# Altium schematic symbol library ANLOGIC EAGLE FPGA E104 V2.0.SCHLIB: 18 symbols
Pins are listed as number, name and electrical type; pins without a type are passive.

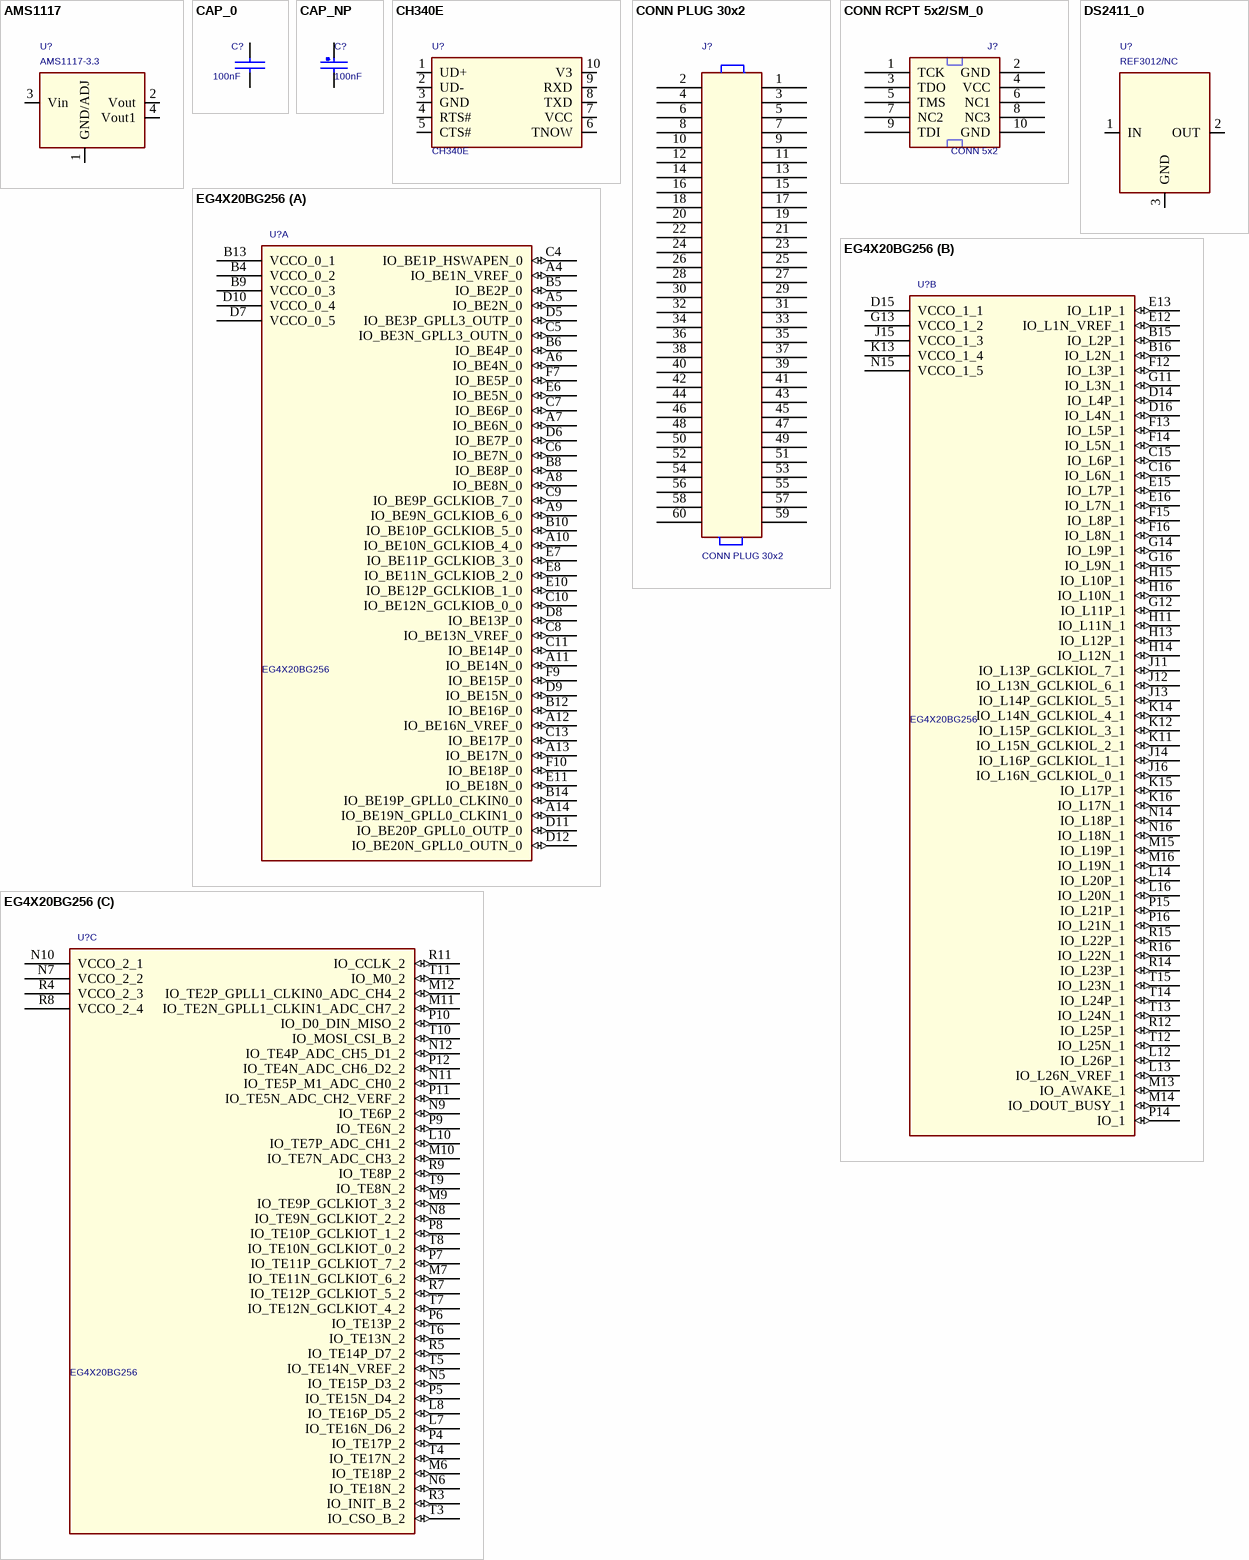
[diagram p0: symbols AMS1117 to EG4X20BG256]

## AMS1117
designator U?, comment AMS1117-3.3
footprint SOT-223
footprint SOT-223
pins: 1 GND/ADJ, 2 Vout (power), 3 Vin (power), 4 Vout1 (power)

## CAP_0
designator C?, comment 100nF
CAP CER .1UF 16V X7R 0402; MANUFACTURER: MURATA; MANUFACTURER P/N: GRM155R71C104KA88D; ROOM: PHY&FPGA; DISTRIBUTOR P/N: 490-3261-1-ND; DIELECTRIC: X7R; PRICE: 0.00300; DISTRIBUTOR: DIGIKEY
footprint 0603
footprint C0402
pins: 1, 2

## CAP_NP
designator C?, comment 100nF
CAP CER 0.01UF 6.3V 10% X7R 0201; AGILE_PN: 150-75465; MFG_NAME01: MURATA; MFG_PN01: GRM033R70J103KA01D; CAD_APPROVED: YES; FPLIST: CC0201,CC0201_HD,0201_CC; Tolerance: 10%; ROHS: Yes; HEIGHT: 0.33 MM
footprint C0402
pins: 1, 2

## CH340E
designator U?
footprint MSOP10
pins: 1 UD+, 2 UD-, 3 GND (power), 4 RTS#, 5 CTS#, 6 TNOW, 7 VCC (power), 8 TXD, 9 RXD, 10 V3

## CONN PLUG 30x2
designator J?
footprint DIP2X30_2P54
pins: 1, 2, 3, 4, 5, 6, 7, 8, 9, 10, 11, 12, 13, 14, 15, 16, 17, 18, 19, 20, 21, 22, 23, 24, 25, 26, 27, 28, 29, 30, 31, 32, 33, 34, 35, 36, 37, 38, 39, 40, 41, 42, 43, 44, 45, 46, 47, 48, 49, 50, 51, 52, 53, 54, 55, 56, 57, 58, 59, 60

## CONN RCPT 5x2/SM_0
designator J?, comment CONN 5x2
footprint DIP10-2P54-I
pins: 1 TCK, 2 GND (power), 3 TDO, 4 VCC (power), 5 TMS, 6 NC1, 7 NC2, 8 NC3, 9 TDI, 10 GND (power)

## DS2411_0
designator U?, comment REF3012/NC
footprint SOT23_3
pins: 1 IN (power), 2 OUT (power), 3 GND (power)

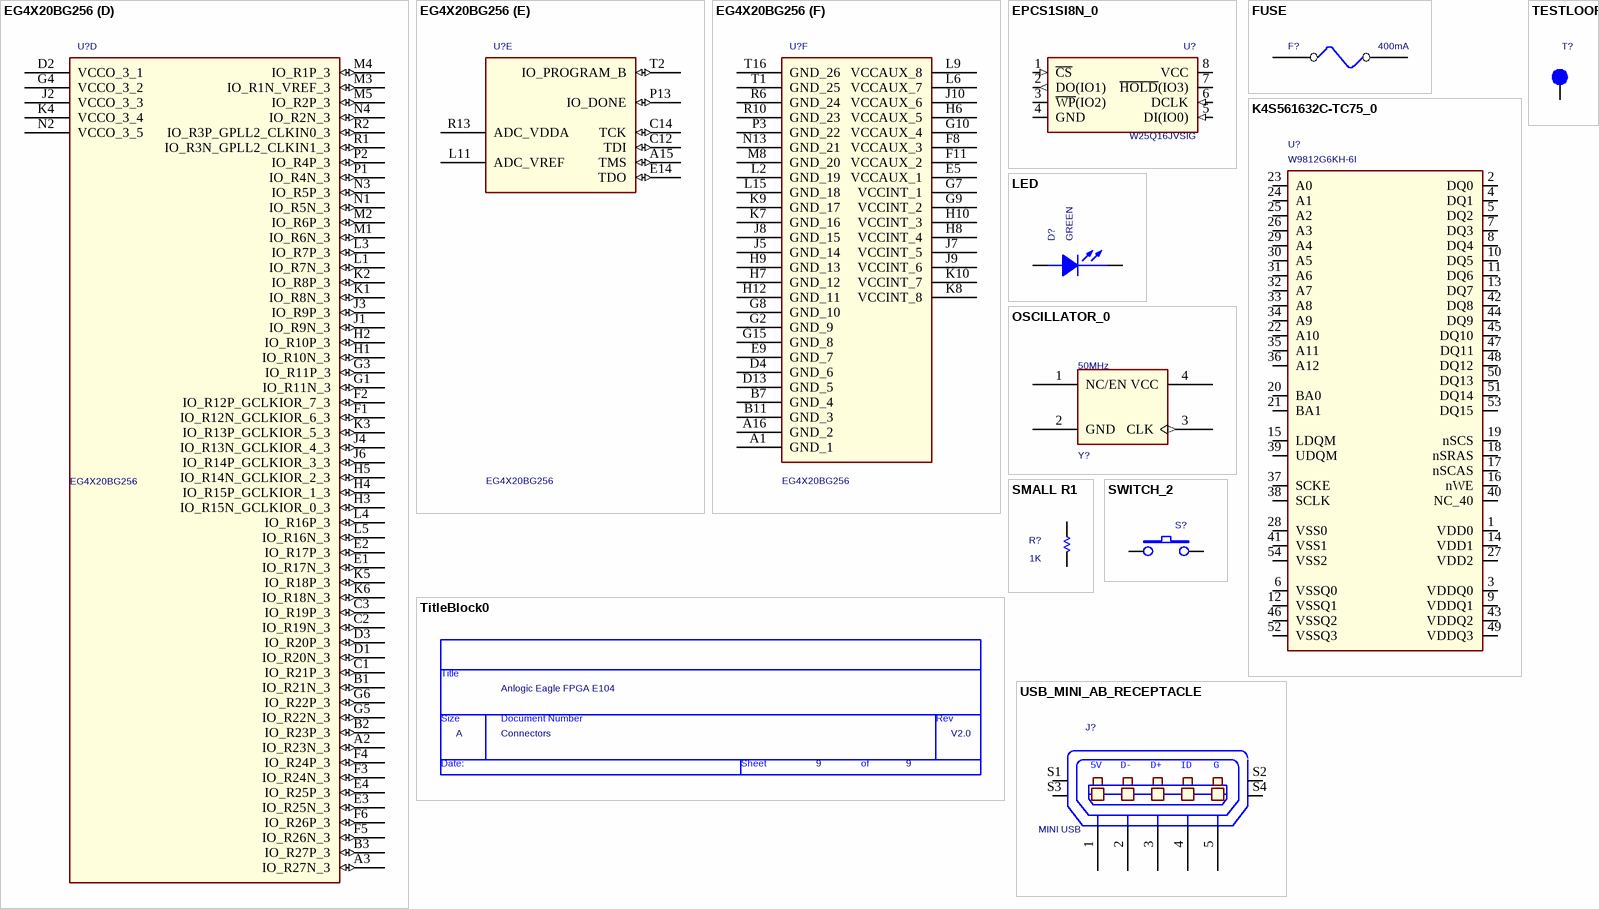
[diagram p1: symbols EG4X20BG256 to USB_MINI_AB_RECEPTACLE]

## EG4X20BG256
designator U?
SWAP_INFO: (S1+S2+S3+S4+S5+S6); SPLIT_INST: TRUE
footprint FTG256
part A pins: A4 IO_BE1N_VREF_0 (io), A5 IO_BE2N_0 (io), A6 IO_BE4N_0 (io), A7 IO_BE6N_0 (io), A8 IO_BE8N_0 (io), A9 IO_BE9N_GCLKIOB_6_0 (io), A10 IO_BE10N_GCLKIOB_4_0 (io), A11 IO_BE14N_0 (io), A12 IO_BE16N_VREF_0 (io), A13 IO_BE17N_0 (io), A14 IO_BE19N_GPLL0_CLKIN1_0 (io), B4 VCCO_0_2 (power), B5 IO_BE2P_0 (io), B6 IO_BE4P_0 (io), B8 IO_BE8P_0 (io), B9 VCCO_0_3 (power), B10 IO_BE10P_GCLKIOB_5_0 (io), B12 IO_BE16P_0 (io), B13 VCCO_0_1 (power), B14 IO_BE19P_GPLL0_CLKIN0_0 (io), C4 IO_BE1P_HSWAPEN_0 (io), C5 IO_BE3N_GPLL3_OUTN_0 (io), C6 IO_BE7N_0 (io), C7 IO_BE6P_0 (io), C8 IO_BE13N_VREF_0 (io), C9 IO_BE9P_GCLKIOB_7_0 (io), C10 IO_BE12N_GCLKIOB_0_0 (io), C11 IO_BE14P_0 (io), C13 IO_BE17P_0 (io), D5 IO_BE3P_GPLL3_OUTP_0 (io), D6 IO_BE7P_0 (io), D7 VCCO_0_5 (power), D8 IO_BE13P_0 (io), D9 IO_BE15N_0 (io), D10 VCCO_0_4 (power), D11 IO_BE20P_GPLL0_OUTP_0 (io), D12 IO_BE20N_GPLL0_OUTN_0 (io), E6 IO_BE5N_0 (io), E7 IO_BE11P_GCLKIOB_3_0 (io), E8 IO_BE11N_GCLKIOB_2_0 (io), E10 IO_BE12P_GCLKIOB_1_0 (io), E11 IO_BE18N_0 (io), F7 IO_BE5P_0 (io), F9 IO_BE15P_0 (io), F10 IO_BE18P_0 (io)
part B pins: B15 IO_L2P_1 (io), B16 IO_L2N_1 (io), C15 IO_L6P_1 (io), C16 IO_L6N_1 (io), D14 IO_L4P_1 (io), D15 VCCO_1_1 (power), D16 IO_L4N_1 (io), E12 IO_L1N_VREF_1 (io), E13 IO_L1P_1 (io), E15 IO_L7P_1 (io), E16 IO_L7N_1 (io), F12 IO_L3P_1 (io), F13 IO_L5P_1 (io), F14 IO_L5N_1 (io), F15 IO_L8P_1 (io), F16 IO_L8N_1 (io), G11 IO_L3N_1 (io), G12 IO_L11P_1 (io), G13 VCCO_1_2 (power), G14 IO_L9P_1 (io), G16 IO_L9N_1 (io), H11 IO_L11N_1 (io), H13 IO_L12P_1 (io), H14 IO_L12N_1 (io), H15 IO_L10P_1 (io), H16 IO_L10N_1 (io), J11 IO_L13P_GCLKIOL_7_1 (io), J12 IO_L13N_GCLKIOL_6_1 (io), J13 IO_L14P_GCLKIOL_5_1 (io), J14 IO_L16P_GCLKIOL_1_1 (io), J15 VCCO_1_3 (power), J16 IO_L16N_GCLKIOL_0_1 (io), K11 IO_L15N_GCLKIOL_2_1 (io), K12 IO_L15P_GCLKIOL_3_1 (io), K13 VCCO_1_4 (power), K14 IO_L14N_GCLKIOL_4_1 (io), K15 IO_L17P_1 (io), K16 IO_L17N_1 (io), L12 IO_L26P_1 (io), L13 IO_L26N_VREF_1 (io), L14 IO_L20P_1 (io), L16 IO_L20N_1 (io), M13 IO_AWAKE_1 (io), M14 IO_DOUT_BUSY_1 (io), M15 IO_L19P_1 (io), M16 IO_L19N_1 (io), N14 IO_L18P_1 (io), N15 VCCO_1_5 (power), N16 IO_L18N_1 (io), P14 IO_1 (io), P15 IO_L21P_1 (io), P16 IO_L21N_1 (io), R12 IO_L25P_1 (io), R14 IO_L23P_1 (io), R15 IO_L22P_1 (io), R16 IO_L22N_1 (io), T12 IO_L25N_1 (io), T13 IO_L24N_1 (io), T14 IO_L24P_1 (io), T15 IO_L23N_1 (io)
part C pins: L7 IO_TE16N_D6_2 (io), L8 IO_TE16P_D5_2 (io), L10 IO_TE7P_ADC_CH1_2 (io), M6 IO_TE18P_2 (io), M7 IO_TE11N_GCLKIOT_6_2 (io), M9 IO_TE9P_GCLKIOT_3_2 (io), M10 IO_TE7N_ADC_CH3_2 (io), M11 IO_TE2N_GPLL1_CLKIN1_ADC_CH7_2 (io), M12 IO_TE2P_GPLL1_CLKIN0_ADC_CH4_2 (io), N5 IO_TE15P_D3_2 (io), N6 IO_TE18N_2 (io), N7 VCCO_2_2 (power), N8 IO_TE9N_GCLKIOT_2_2 (io), N9 IO_TE6P_2 (io), N10 VCCO_2_1 (power), N11 IO_TE5P_M1_ADC_CH0_2 (io), N12 IO_TE4P_ADC_CH5_D1_2 (io), P4 IO_TE17P_2 (io), P5 IO_TE15N_D4_2 (io), P6 IO_TE13P_2 (io), P7 IO_TE11P_GCLKIOT_7_2 (io), P8 IO_TE10P_GCLKIOT_1_2 (io), P9 IO_TE6N_2 (io), P10 IO_D0_DIN_MISO_2 (io), P11 IO_TE5N_ADC_CH2_VERF_2 (io), P12 IO_TE4N_ADC_CH6_D2_2 (io), R3 IO_INIT_B_2 (io), R4 VCCO_2_3 (power), R5 IO_TE14P_D7_2 (io), R7 IO_TE12P_GCLKIOT_5_2 (io), R8 VCCO_2_4 (power), R9 IO_TE8P_2 (io), R11 IO_CCLK_2 (io), T3 IO_CSO_B_2 (io), T4 IO_TE17N_2 (io), T5 IO_TE14N_VREF_2 (io), T6 IO_TE13N_2 (io), T7 IO_TE12N_GCLKIOT_4_2 (io), T8 IO_TE10N_GCLKIOT_0_2 (io), T9 IO_TE8N_2 (io), T10 IO_MOSI_CSI_B_2 (io), T11 IO_M0_2 (io)
part D pins: A2 IO_R23N_3 (io), A3 IO_R27N_3 (io), B1 IO_R21N_3 (io), B2 IO_R23P_3 (io), B3 IO_R27P_3 (io), C1 IO_R21P_3 (io), C2 IO_R19N_3 (io), C3 IO_R19P_3 (io), D1 IO_R20N_3 (io), D2 VCCO_3_1 (power), D3 IO_R20P_3 (io), E1 IO_R17N_3 (io), E2 IO_R17P_3 (io), E3 IO_R25N_3 (io), E4 IO_R25P_3 (io), F1 IO_R12N_GCLKIOR_6_3 (io), F2 IO_R12P_GCLKIOR_7_3 (io), F3 IO_R24N_3 (io), F4 IO_R24P_3 (io), F5 IO_R26N_3 (io), F6 IO_R26P_3 (io), G1 IO_R11N_3 (io), G3 IO_R11P_3 (io), G4 VCCO_3_2 (power), G5 IO_R22N_3 (io), G6 IO_R22P_3 (io), H1 IO_R10N_3 (io), H2 IO_R10P_3 (io), H3 IO_R15N_GCLKIOR_0_3 (io), H4 IO_R15P_GCLKIOR_1_3 (io), H5 IO_R14N_GCLKIOR_2_3 (io), J1 IO_R9N_3 (io), J2 VCCO_3_3 (power), J3 IO_R9P_3 (io), J4 IO_R13N_GCLKIOR_4_3 (io), J6 IO_R14P_GCLKIOR_3_3 (io), K1 IO_R8N_3 (io), K2 IO_R8P_3 (io), K3 IO_R13P_GCLKIOR_5_3 (io), K4 VCCO_3_4 (power), K5 IO_R18P_3 (io), K6 IO_R18N_3 (io), L1 IO_R7N_3 (io), L3 IO_R7P_3 (io), L4 IO_R16P_3 (io), L5 IO_R16N_3 (io), M1 IO_R6N_3 (io), M2 IO_R6P_3 (io), M3 IO_R1N_VREF_3 (io), M4 IO_R1P_3 (io), M5 IO_R2P_3 (io), N1 IO_R5N_3 (io), N2 VCCO_3_5 (power), N3 IO_R5P_3 (io), N4 IO_R2N_3 (io), P1 IO_R4N_3 (io), P2 IO_R4P_3 (io), R1 IO_R3N_GPLL2_CLKIN1_3 (io), R2 IO_R3P_GPLL2_CLKIN0_3 (io)
part E pins: A15 TMS (io), C12 TDI (io), C14 TCK (io), E14 TDO (io), L11 ADC_VREF (power), P13 IO_DONE (io), R13 ADC_VDDA (power), T2 IO_PROGRAM_B (io)
part F pins: A1 GND_1 (power), A16 GND_2 (power), B7 GND_4 (power), B11 GND_3 (power), D4 GND_6 (power), D13 GND_5 (power), E5 VCCAUX_1 (power), E9 GND_7 (power), F8 VCCAUX_3 (power), F11 VCCAUX_2 (power), G2 GND_9 (power), G7 VCCINT_1 (power), G8 GND_10 (power), G9 VCCINT_2 (power), G10 VCCAUX_4 (power), G15 GND_8 (power), H6 VCCAUX_5 (power), H7 GND_12 (power), H8 VCCINT_4 (power), H9 GND_13 (power), H10 VCCINT_3 (power), H12 GND_11 (power), J5 GND_14 (power), J7 VCCINT_5 (power), J8 GND_15 (power), J9 VCCINT_6 (power), J10 VCCAUX_6 (power), K7 GND_16 (power), K8 VCCINT_8 (power), K9 GND_17 (power), K10 VCCINT_7 (power), L2 GND_19 (power), L6 VCCAUX_7 (power), L9 VCCAUX_8 (power), L15 GND_18 (power), M8 GND_20 (power), N13 GND_21 (power), P3 GND_22 (power), R6 GND_24 (power), R10 GND_23 (power), T1 GND_25 (power), T16 GND_26 (power)

## EPCS1SI8N_0
designator U?, comment W25Q16JVSIG
footprint SOIC8_1P27_208MIL
pins: 1 ~{CS} (in), 2 DO(IO1) (out), 3 ~{WP}(IO2), 4 GND (power), 5 DI(IO0) (in), 6 DCLK (in), 7 ~{HOLD}(IO3), 8 VCC (power)

## FUSE
designator F?, comment 400mA
footprint F0805
pins: 1, 2

## K4S561632C-TC75_0
designator U?, comment W9812G6KH-6I
footprint TSOP54-400
footprint TSOP54-400
pins: 1 VDD0, 2 DQ0, 3 VDDQ0, 4 DQ1, 5 DQ2, 6 VSSQ0, 7 DQ3, 8 DQ4, 9 VDDQ1, 10 DQ5, 11 DQ6, 12 VSSQ1, 13 DQ7, 14 VDD1, 15 LDQM, 16 nWE, 17 nSCAS, 18 nSRAS, 19 nSCS, 20 BA0, 21 BA1, 22 A10, 23 A0, 24 A1, 25 A2, 26 A3, 27 VDD2, 28 VSS0, 29 A4, 30 A5, 31 A6, 32 A7, 33 A8, 34 A9, 35 A11, 36 A12, 37 SCKE, 38 SCLK, 39 UDQM, 40 NC_40, 41 VSS1, 42 DQ8, 43 VDDQ2, 44 DQ9, 45 DQ10, 46 VSSQ2, 47 DQ11, 48 DQ12, 49 VDDQ3, 50 DQ13, 51 DQ14, 52 VSSQ3, 53 DQ15, 54 VSS2

## LED
designator D?, comment GREEN
ROOM: POWER
footprint Q0603
pins: 1 ANODE, 2 CATHODE

## OSCILLATOR_0
designator Y?, comment 50MHz
ROOM: PHY&FPGA
footprint OSC5X7
footprint OSC3225
pins: 1 NC/EN, 2 GND (power), 3 CLK (out), 4 VCC (power)

## SMALL R1
designator R?, comment 1K
footprint R0402
pins: 1, 2

## SWITCH_2
designator S?, comment FSMRA2JH  (value not drawn)
SWITCH TACT RA H=3.86MM 160GF; MANUFACTURER: TYCO; ROOM: CPU; MANUFACTURER P/N: FSMRA2JH
footprint BTN4I3p0V7p1
footprint SMD_3X4X2MM
pins: 1, 2

## TESTLOOP
designator T?, comment TPAD_015  (value not drawn)
TEST POINT PAD 15MIL DIA SMT, NO PART TO ORDER; CLASS: IO; CAD_APPROVED: Yes; ASSY_OPT: DNP; MFG_PN01: NOTACOMPONENT; AGILE_PN: 211-76645; HEIGHT: 0.1MM; ROHS: Yes; MFG_NAME01: NOTACOMPONENT
footprint TP_OBL1_4X0_6
pins: 1 Pin1

## TitleBlock0
designator *?  Page Count: 9  Page Size: A  Title: Anlogic Eagle FPGA E104  RevCode: V2.0  Doc: Connectors  (hidden comment: TitleBlock0)  (graphical)
Page Number: 9; Page Create Date: March  8, 1995
text: Title; Size; Document Number; Rev; Date:; Sheet; of

## USB_MINI_AB_RECEPTACLE
designator J?, comment MINI USB
CON 1X5 USB_MICRO_AB_RECEPTACLE RA SMT 0.65MM SP 105H AU; CLASS: IO; AGILE_PN: 211-78722; MFG_NAME01: Molex; MFG_PN01: 47589-0001; CAD_APPROVED: Yes; FPLIST: con5_microusb,con5_microusb_cust; ROHS: Yes; HEIGHT: 2.65MM
footprint miniusb-ab-sm
pins: 1 P1, 2 P2, 3 P3, 4 P4, 5 P5, S1 SHLD1, S2 SHLD2, S3 SHLD3, S4 SHLD4
text: 5V; D-; D+; ID; G